# Altium footprint library 3dig.PcbLib: 1 footprints
Each footprint in its own frame and in the unit in brackets; x right, y up, seen from the top. Pads: shape width x height; smd on the part's side, far side on the other; paste and mask are expansions set on the pad; w line width, h text height; cw(c..) or ccw(c..) is an arc to the next point about the centre after c.
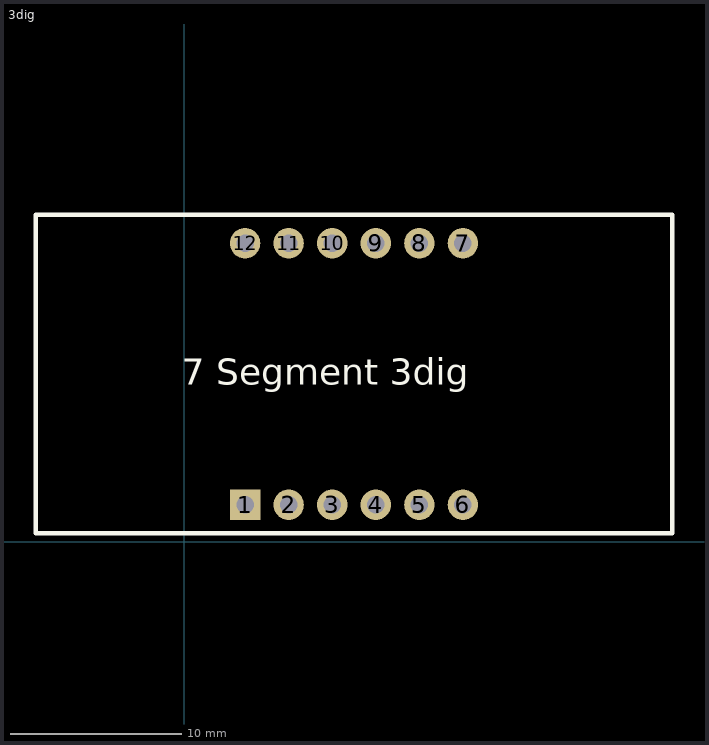
[diagram p0: the footprint, top view; thin cyan lines are the x and y axes]

## 3dig [mil]
pads (12):
  rect 70x70 hole 40: 1(140,85)
  round 70 hole 40: 2(240,85) 3(340,85) 4(440,85) 5(540,85) 6(640,85) 7(640,685) 8(540,685) 9(440,685) 10(340,685) 11(240,685) 12(140,685)
Top Overlay:
  lines w10: -340,20 1120,20 1120,750 -340,750 -340,20
  text "7 Segment 3dig" at -5,359.99 h60
3D body "7segment3dig0.56in.STEP": height 300, standoff -223.62, extent -350,10.98 1130.32,759.02